# Altium footprint library 452005691#NIBP涡轮驱动板V2.00.PcbLib: 73 footprints (part 1 of 5)
Each footprint in its own frame and in the unit in brackets; x right, y up, seen from the top. Pads: shape width x height; smd on the part's side, far side on the other; paste and mask are expansions set on the pad; w line width, h text height; cw(c..) or ccw(c..) is an arc to the next point about the centre after c.
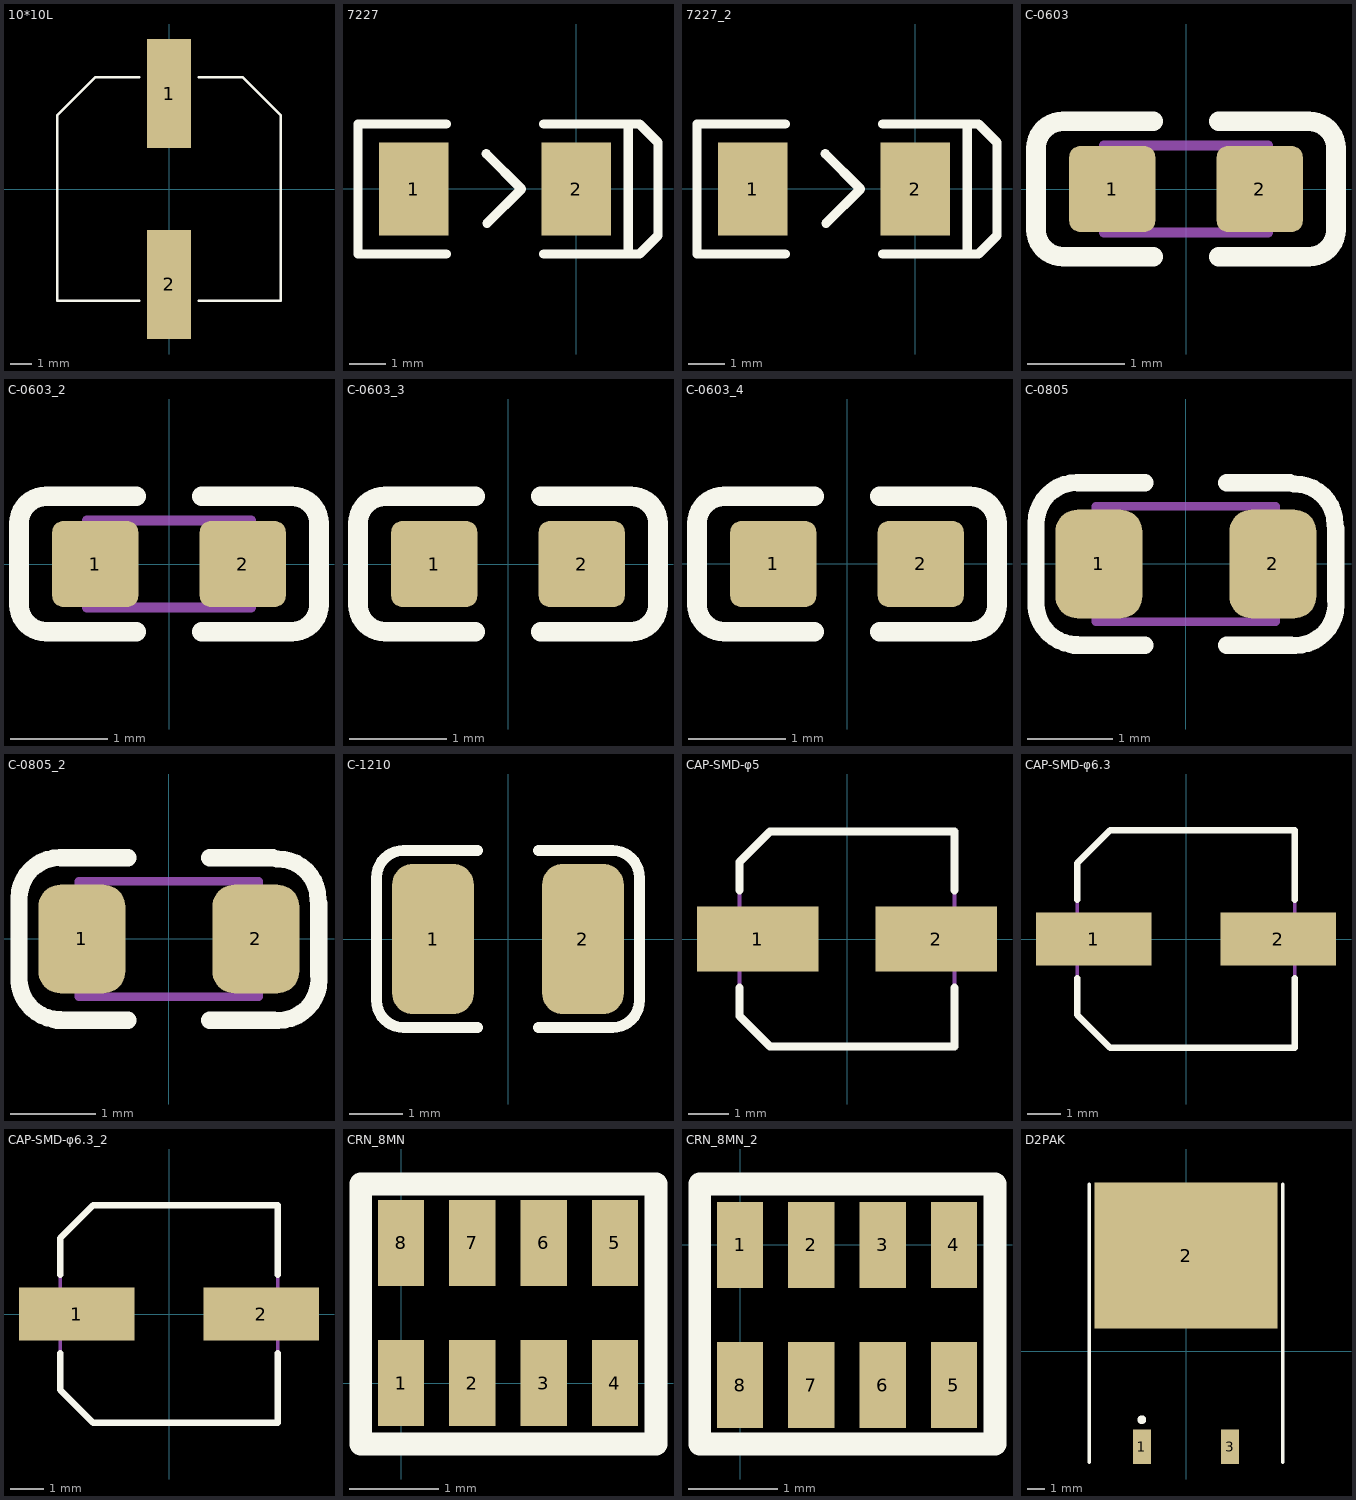
[diagram p0: the footprints below, top view; thin cyan lines are the x and y axes]

## 10*10L [mil]
pads (2):
  rect 80x200 smd: 1(0,175) 2(0,-175)
Top Overlay:
  lines w5: -55,-205 -205,-205 -205,135 -135,205 -55,205 ; 55,-205 205,-205 205,135 135,205 55,205
3D body: height 433.07, standoff 39.37, extent -195,-196.46 197.15,196.46
3D body: height 39.37, standoff 0, extent -205,-205 205,205

## 7227 [mm]
height 4.14
pads (2):
  rect 1.905x2.54 smd: 1(-4.448,-0.003) 2(-0.003,-0.003)
Top Overlay:
  lines w0.254: -3.559,-1.781 -5.972,-1.781 -5.972,1.775 -3.559,1.775 ; -2.467,0.962 -1.502,-0.003 ; -2.441,-0.943 -1.502,-0.003 ; -1.527,-0.003 -1.502,-0.003 ; -0.892,-1.781 1.013,-1.781 1.419,-1.781 ; -0.892,1.775 1.013,1.775 1.419,1.775 ; 1.419,-1.781 1.419,1.775 ; 1.419,-1.781 1.724,-1.781 2.232,-1.273 2.232,1.267 1.724,1.775 1.419,1.775

## 7227_2 [mm]
pads (2):
  rect 1.905x2.54 smd: 1(-4.448,-0.003) 2(-0.003,-0.003)
Top Overlay:
  lines w0.254: -3.559,-1.781 -5.972,-1.781 -5.972,1.775 -3.559,1.775 ; -2.467,0.962 -1.502,-0.003 ; -2.441,-0.943 -1.502,-0.003 ; -1.527,-0.003 -1.502,-0.003 ; -0.892,-1.781 1.013,-1.781 1.419,-1.781 ; -0.892,1.775 1.013,1.775 1.419,1.775 ; 1.419,-1.781 1.724,-1.781 2.232,-1.273 2.232,1.267 1.724,1.775 1.419,1.775 ; 1.419,-1.781 1.419,1.775

## C-0603 [mil] "Chip Capacitor, 2-Leads, Body 1.60x0.80mm, IPC Medium Density"
height 19.68
pads (2):
  rrect25% 35x35 smd: 1(-30,0) 2(30,0)
Top Overlay:
  lines w8: -13.36,-27.56 -50,-27.56 cw(c-50,-16.54) -61.02,-16.54 -61.02,16.54 cw(c-50,16.54) -50,27.56 -13.36,27.56 ; 13.36,-27.56 50,-27.56 ccw(c50,-16.54) 61.02,-16.54 61.02,16.54 ccw(c50,16.54) 50,27.56 13.36,27.56
Mechanical 13:
  lines w3.94: -33.46,-17.72 33.46,-17.72 33.46,17.72 -33.46,17.72 -33.46,-17.72
3D body: height 19.68, standoff 0, extent 21.65,-17.72 33.46,17.72
3D body: height 19.68, standoff 0, extent -33.46,-17.72 -21.65,17.72
3D body: height 19.68, standoff 0, extent -21.65,-17.72 21.65,17.72

## C-0603_2 [mil]
pads (2):
  rrect25% 35x35 smd: 1(-30,0) 2(30,0)
Top Overlay:
  lines w8: -13.36,-27.56 -50,-27.56 cw(c-50,-16.54) -61.02,-16.54 -61.02,16.54 cw(c-50,16.54) -50,27.56 -13.36,27.56 ; 13.36,-27.56 50,-27.56 ccw(c50,-16.54) 61.02,-16.54 61.02,16.54 ccw(c50,16.54) 50,27.56 13.36,27.56
Mechanical 13:
  lines w3.94: -33.46,-17.72 -33.46,17.72 33.46,17.72 33.46,-17.72 -33.46,-17.72
3D body: height 19.68, standoff 0, extent -21.65,-17.72 21.65,17.72
3D body: height 19.68, standoff 0, extent -33.46,-17.72 -21.65,17.72
3D body: height 19.68, standoff 0, extent 21.65,-17.72 33.46,17.72

## C-0603_3 [mil]
pads (2):
  rrect25% 35x35 smd: 1(-30,0) 2(30,0)
Top Overlay:
  lines w8: -13.36,-27.56 -50,-27.56 cw(c-50,-16.54) -61.02,-16.54 -61.02,16.54 cw(c-50,16.54) -50,27.56 -13.36,27.56 ; 13.36,-27.56 50,-27.56 ccw(c50,-16.54) 61.02,-16.54 61.02,16.54 ccw(c50,16.54) 50,27.56 13.36,27.56

## C-0603_4 [mil]
pads (2):
  rrect25% 35x35 smd: 1(-30,0) 2(30,0)
Top Overlay:
  lines w8: -13.36,-27.56 -50,-27.56 cw(c-50,-16.54) -61.02,-16.54 -61.02,16.54 cw(c-50,16.54) -50,27.56 -13.36,27.56 ; 13.36,-27.56 50,-27.56 ccw(c50,-16.54) 61.02,-16.54 61.02,16.54 ccw(c50,16.54) 50,27.56 13.36,27.56

## C-0805 [mil] "Chip Capacitor, 2-Leads, Body 2.00x1.25mm, IPC Medium Density"
height 49.21
pads (2):
  rrect50% 40x50 smd: 1(-40,0) 2(40,0)
Top Overlay:
  lines w7.87: -68.91,18.62 cw(c-50.12,18.62) -50.12,37.41 ; -68.87,-18.33 ccw(c-50.09,-18.33) -50.09,-37.12 ; 49.84,36.85 cw(c49.84,18.06) 68.63,18.06 ; 50.23,-37.41 ccw(c50.23,-18.63) 69.01,-18.63
  lines w8: -68.9,-19.96 -68.9,17.92 ; -51.46,-37.4 -18.78,-37.4 ; -49.42,37.4 -18.78,37.4 ; 18.78,-37.4 48.27,-37.4 ; 18.78,37.4 47.81,37.4 ; 68.9,-16.78 68.9,16.32
Mechanical 13:
  lines w3.94: -41.34,-26.57 41.34,-26.57 41.34,26.58 -41.34,26.58 -41.34,-26.57
3D body: height 19.68, standoff 0, extent 27.56,-26.57 41.34,26.57
3D body: height 19.68, standoff 0, extent -41.34,-26.57 -27.56,26.57
3D body: height 19.68, standoff 0, extent -27.56,-26.57 27.56,26.57

## C-0805_2 [mil]
pads (2):
  rrect50% 40x50 smd: 1(-40,0) 2(40,0)
Top Overlay:
  lines w7.87: -68.91,18.62 cw(c-50.12,18.62) -50.12,37.41 ; -68.87,-18.33 ccw(c-50.09,-18.33) -50.09,-37.12 ; 49.84,36.85 cw(c49.84,18.06) 68.63,18.06 ; 50.22,-37.41 ccw(c50.22,-18.63) 69.01,-18.63
  lines w8: -68.9,-19.96 -68.9,17.92 ; -51.46,-37.4 -18.78,-37.4 ; -49.42,37.4 -18.78,37.4 ; 18.78,-37.4 48.27,-37.4 ; 18.78,37.4 47.81,37.4 ; 68.9,-16.78 68.9,16.32
Mechanical 13:
  lines w3.94: -41.34,-26.57 41.34,-26.57 41.34,26.58 -41.34,26.58 -41.34,-26.57
3D body: height 19.68, standoff 0, extent 27.56,-26.57 41.34,26.58
3D body: height 19.68, standoff 0, extent -41.34,-26.57 -27.56,26.58
3D body: height 19.68, standoff 0, extent -27.56,-26.57 27.56,26.57

## C-1210 [mil] "Chip Capacitor, 2-Leads, Body 3.20x2.50mm, IPC Medium Density"
height 78.74
pads (2):
  rrect50% 60x110 smd: 1(-55,0) 2(55,0)
Top Overlay:
  lines w8: -22.51,-64.96 -76.46,-64.96 cw(c-76.46,-44.96) -96.46,-44.96 -96.46,44.96 cw(c-76.46,44.96) -76.46,64.96 -22.51,64.96 ; 22.51,-64.96 76.46,-64.96 ccw(c76.46,-44.96) 96.46,-44.96 96.46,44.96 ccw(c76.46,44.96) 76.46,64.96 22.51,64.96

## CAP-SMD-φ5 [mm] "SANYO,SVP SERIES ELECTROLYTIC CAPACITORS"
pads (2):
  rect 3x1.6 smd: 1(-2.2,0) 2(2.2,0)
Top Overlay:
  lines w0.203: -2.65,-1.2 -2.65,-1.9 -1.9,-2.65 2.65,-2.65 2.65,-1.2 ; -2.65,1.2 -2.65,1.9 -1.9,2.65 2.65,2.65 2.65,1.2
Mechanical 13:
  lines w0.1: -2.65,-1.9 -1.9,-2.65 2.65,-2.65 2.65,2.65 -1.9,2.65 -2.65,1.9 -2.65,-1.9
  text "+" at -2.438,1.092 h1.02

## CAP-SMD-φ6.3 [mm] "SANYO,SVP SERIES ELECTROLYTIC CAPACITORS"
height 1.6
pads (2):
  rect 3.5x1.6 smd: 1(-2.8,0) 2(2.8,0)
Top Overlay:
  lines w0.203: -3.3,-1.2 -3.3,-2.3 -2.3,-3.3 3.3,-3.3 3.3,-1.2 ; -3.3,1.2 -3.3,2.3 -2.3,3.3 3.3,3.3 3.3,1.2
Mechanical 13:
  lines w0.1: -3.3,-2.3 -2.3,-3.3 3.3,-3.3 3.3,3.3 -2.3,3.3 -3.3,2.3 -3.3,-2.3
  text "+" at -2.946,1.092 h1.02
3D body: height 5.8, standoff 0, extent -3.134,-3.152 3.141,3.135

## CAP-SMD-φ6.3_2 [mm]
pads (2):
  rect 3.5x1.6 smd: 1(-2.8,0) 2(2.8,0)
Top Overlay:
  lines w0.203: -3.3,-1.2 -3.3,-2.3 -2.3,-3.3 3.3,-3.3 3.3,-1.2 ; -3.3,1.2 -3.3,2.3 -2.3,3.3 3.3,3.3 3.3,1.2
Mechanical 13:
  lines w0.1: -3.3,-2.3 -3.3,2.3 -2.3,3.3 3.3,3.3 3.3,-3.3 -2.3,-3.3 -3.3,-2.3
  text "+" at -2.946,1.092 h1.02

## CRN_8MN [mm]
height 4.14
pads (8):
  rect 0.52x0.965 smd: 1(0,0) 2(0.8,0) 3(1.6,0) 4(2.4,0) 5(2.4,1.575) 6(1.6,1.575) 7(0.8,1.575) 8(0,1.575)
Top Overlay:
  lines w0.254: -0.451,-0.682 2.861,-0.682 2.861,2.234 -0.451,2.234 -0.451,-0.682

## CRN_8MN_2 [mm]
pads (8):
  rect 0.52x0.965 smd: 1(0,0) 2(0.8,0) 3(1.6,0) 4(2.4,0) 5(2.4,-1.575) 6(1.6,-1.575) 7(0.8,-1.575) 8(0,-1.575)
Top Overlay:
  lines w0.254: -0.451,-2.234 -0.451,0.682 2.861,0.682 2.861,-2.234 -0.451,-2.234

## D2PAK [mm] "D2-PAK/TO-263-AB; 3 Leads (1 Cropped); Body 15.5 (inc. le"
height 4.69
pads (3):
  rect 1.05x2 smd: 1(-2.54,-5.5) 3(2.54,-5.5)
  rect 10.55x8.4 smd: 2(0,5.5)
Top Overlay:
  circle w0.25: c-2.54,-3.95 r0.125
  lines w0.2: -5.575,-6.4 -5.575,9.6 ; 5.575,-6.4 5.575,9.6